# Altium footprint library ATK-IMU901.PcbLib: 2 footprints
Each footprint in its own frame and in the unit in brackets; x right, y up, seen from the top. Pads: shape width x height; smd on the part's side, far side on the other; paste and mask are expansions set on the pad; w line width, h text height; cw(c..) or ccw(c..) is an arc to the next point about the centre after c.
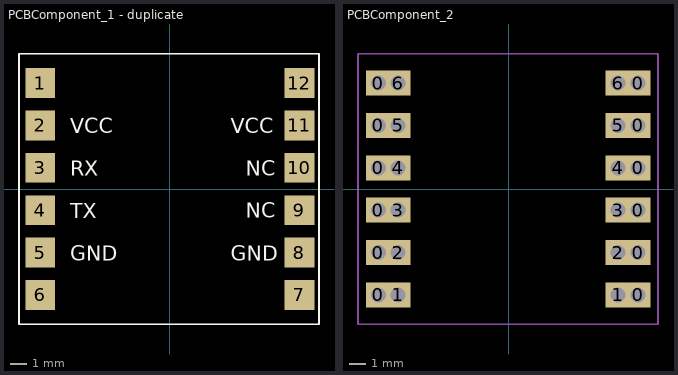
[diagram p0: the footprints below, top view; thin cyan lines are the x and y axes]

## PCBComponent_1 - duplicate [mil]
pads (12):
  rect 70x70 smd: 1(-305.91,250) 2(-305.91,150) 3(-305.91,50) 4(-305.91,-50) 5(-305.91,-150) 6(-305.91,-250) 7(305.91,-250) 8(305.91,-150) 9(305.91,-50) 10(305.91,50) 11(305.91,150) 12(305.91,250)
Top Overlay:
  lines w3.94: -356,-319 -356,319 352,319 352,-319 -356,-319
  text "VCC" at -234.91,131 h35
  text "VCC" at 144.31,131 h35
  text "GND" at -234.91,-169 h35
  text "GND" at 144.31,-169.84 h35
  text "RX" at -234.91,31 h35
  text "TX" at -234.91,-69 h35
  text "NC" at 179.3,-67.35 h35
  text "NC" at 179.3,31 h35

## PCBComponent_2 [mm]
pads (24):
  rect 1.5x1.5 hole 0.9: 0(-7.825,-6.35) 0(-7.825,-3.81) 0(-7.825,-1.27) 0(-7.825,1.27) 0(-7.825,3.81) 0(-7.825,6.35) 0(7.745,-6.35) 0(7.745,-3.81) 0(7.745,-1.27) 0(7.745,1.27) 0(7.745,3.81) 0(7.745,6.35) 1(-6.631,-6.35) 1(6.552,-6.35) 2(-6.631,-3.81) 2(6.552,-3.81) 3(-6.631,-1.27) 3(6.552,-1.27) 4(-6.631,1.27) 4(6.552,1.27) 5(-6.631,3.81) 5(6.552,3.81) 6(-6.631,6.35) 6(6.552,6.35)
Bottom Layer:
  lines w0.254: -7.926,-1.372 -7.825,-1.27
Bottom Overlay:
  lines w0.2: -1.69,3.441 -1.258,3.873 ; -1.235,1.446 ccw(c-1.235,0.393) -0.257,0.002 ; -0.865,-0.051 -0.257,0.002 ; -0.803,3.441 -1.235,3.873 -1.235,0.393 2.245,0.393 1.813,-0.039 ; -0.225,-0.607 -0.257,0.002 ; 1.813,0.848 2.245,0.416
  text "IMU901" at 2.107,-7.341 h1.02
  text "ATK-" at 1.7,-5.69 h1.02
  text "GND" at 5.282,-4.338 h1.02
  text "D3" at 5.282,-6.883 h1.02
  text "NC" at 5.282,-1.793 h1.02
  text "NC" at 5.282,0.752 h1.02
  text "VCC" at 5.282,3.297 h1.02
  text "D2" at 5.282,5.842 h1.02
  text "D0" at -3.68,5.842 h1.02
  text "VCC" at -2.664,3.297 h1.02
  text "RX" at -3.68,0.752 h1.02
  text "TX" at -3.68,-1.793 h1.02
  text "GND" at -2.664,-4.343 h1.02
  text "D1" at -4.018,-6.883 h1.02
  text "Y" at 0.086,3.056 h0.89
  text "X" at 2.219,1.151 h0.89
  text "Z" at -0.93,-1.847 h0.89
Mechanical 1:
  lines w0.1: -9.042,-8.103 8.941,-8.103 8.941,8.103 -9.042,8.103 -9.042,-8.103
3D body "HDR2.54-1P.STEP": height 8.5, standoff -3, extent -7.901,-7.62 -5.361,-5.08
3D body "HDR2.54-1P.STEP": height 8.5, standoff -3, extent -7.901,-5.08 -5.361,-2.54
3D body "HDR2.54-1P.STEP": height 8.5, standoff -3, extent -7.901,-2.54 -5.361,0
3D body "HDR2.54-1P.STEP": height 8.5, standoff -3, extent -7.901,0 -5.361,2.54
3D body "HDR2.54-1P.STEP": height 8.5, standoff -3, extent -7.901,2.54 -5.361,5.08
3D body "HDR2.54-1P.STEP": height 8.5, standoff -3, extent -7.901,5.08 -5.361,7.62
3D body "HDR2.54-1P.STEP": height 8.5, standoff -3, extent 5.282,-7.62 7.822,-5.08
3D body "HDR2.54-1P.STEP": height 8.5, standoff -3, extent 5.282,-5.08 7.822,-2.54
3D body "HDR2.54-1P.STEP": height 8.5, standoff -3, extent 5.282,-2.54 7.822,0
3D body "HDR2.54-1P.STEP": height 8.5, standoff -3, extent 5.282,0 7.822,2.54
3D body "HDR2.54-1P.STEP": height 8.5, standoff -3, extent 5.282,2.54 7.822,5.08
3D body "HDR2.54-1P.STEP": height 8.5, standoff -3, extent 5.282,5.08 7.822,7.62